# Altium integrated library NTC.IntLib: 1 symbol
Pins are listed as number, name and electrical type; pins without a type are passive.

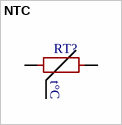
[diagram p0: symbol NTC]

## NTC
designator RT?
footprint NTC
pins: 1, 2
text: t°C